# Altium footprint library UCL1V331MNL1GS.PcbLib: 3 footprints
Each footprint in its own frame and in the unit in brackets; x right, y up, seen from the top. Pads: shape width x height; smd on the part's side, far side on the other; paste and mask are expansions set on the pad; w line width, h text height; cw(c..) or ccw(c..) is an arc to the next point about the centre after c.
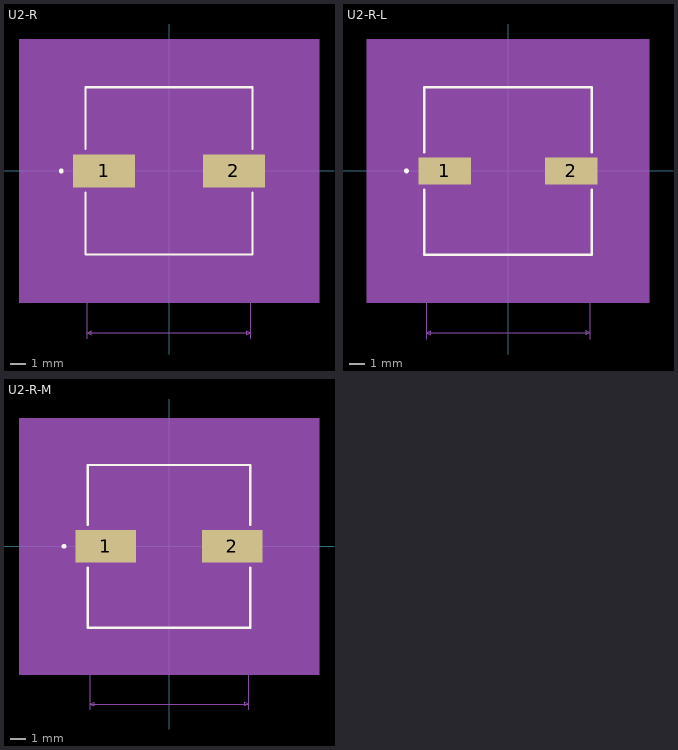
[diagram p0: the footprints below, top view; thin cyan lines are the x and y axes]

## U2-R [mil]
pads (2):
  rect 154x83 smd paste+0 mask+0: 1(-161.5,0) 2(161.5,0)
Top Overlay:
  circle w6: c-268.5,0 r3
  lines w6: -208,-54.6 -208,-208 208,-208 208,-54.6 ; -208,54.6 -208,208 208,208 208,54.6
Mechanical 5:
  region: 373.5,-328 -373.5,-328 -373.5,328 373.5,328
Mechanical 7:
  lines w1: -318,-203 -203,-203 -203,-418 ; -318,203 -203,203 ; -260.5,-303 -210.5,-303 ; -210.5,-318 -210.5,-51.5 ; -210.5,51.5 -210.5,318 ; -84.5,-318 -84.5,-31.5 ; -34.5,-303 -84.5,-303 ; 203,-418 203,-203 ; 210.5,51.5 210.5,318 ; 248.5,-21.5 353.5,-21.5 ; 248.5,21.5 353.5,21.5 ; 338.5,-71.5 338.5,-21.5 ; 338.5,71.5 338.5,21.5 ; -303,-203 -298,-193 -308,-193 -303,-203 ; -303,-203 -303,203 ; -303,203 -298,193 -308,193 -303,203 ; -210.5,-303 -220.5,-308 -220.5,-298 -210.5,-303 ; -210.5,303 -200.5,298 -200.5,308 -210.5,303 ; -210.5,303 210.5,303 ; -203,-403 -193,-408 -193,-398 -203,-403 ; -203,-403 203,-403 ; -84.5,-303 -74.5,-308 -74.5,-298 -84.5,-303 ; 203,-403 193,-408 193,-398 203,-403 ; 210.5,303 200.5,298 200.5,308 210.5,303 ; 338.5,-21.5 343.5,-31.5 333.5,-31.5 338.5,-21.5 ; 338.5,21.5 343.5,31.5 333.5,31.5 338.5,21.5
  text "0.406in/10.312mm" at -100,-448 h25
  text "0.126in/3.2mm" at -228.75,-348 h25
  text "0.406in/10.312mm" at -523,-12.5 h25
  text "0.421in/10.693mm" at -100,323 h25
  text "0.043in/1.092mm" at 358.5,-12.5 h25
  text "Alternate 2 Padstyle: OX90Y60D30P" at -412.5,-633.5 h50
  text "Alternate 1 Padstyle: OX60Y90D30P" at -412.5,-533.5 h50
  text "Default Padstyle: RX154Y83D0T" at -362.5,-433.5 h50
Mechanical 13:
  circle w0: c-183,0 r3
  lines w1: -203,-101.5 -101.5,-203 ; -203,101.5 -101.5,203 ; -203,-203 -203,203 203,203 203,-203 -203,-203
Mechanical 15:
  region: -213,-51.5 -248.5,-51.5 -248.5,51.5 -213,51.5 -213,213 213,213 213,51.5 248.5,51.5 248.5,-51.5 213,-51.5 213,-213 -213,-213
  lines w6: -248.5,-51.5 -213,-51.5 -213,-213 213,-213 213,-51.5 248.5,-51.5 248.5,51.5 213,51.5 213,213 -213,213 -213,51.5 -248.5,51.5 -248.5,-51.5
3D body: height 393.7, standoff 0, extent -196.85,-196.84 196.85,196.86
3D body: height 787.4, standoff -2755.91, extent -40,40 -40,40
3D body: height 10, standoff 0, extent 0,0 10,10

## U2-R-L [mil]
pads (2):
  rect 130x67 smd paste+0 mask+0: 1(-157.5,0) 2(157.5,0)
Top Overlay:
  circle w6: c-252.5,0 r3
  lines w6: -208,-46.6 -208,-208 208,-208 208,-46.6 ; -208,46.6 -208,208 208,208 208,46.6
Mechanical 5:
  region: 351.5,-328 -351.5,-328 -351.5,328 351.5,328
Mechanical 7:
  lines w1: -318,-203 -203,-203 -203,-418 ; -318,203 -203,203 ; -260.5,-303 -210.5,-303 ; -210.5,-318 -210.5,-43.5 ; -210.5,43.5 -210.5,318 ; -84.5,-318 -84.5,-23.5 ; -34.5,-303 -84.5,-303 ; 203,-418 203,-203 ; 210.5,43.5 210.5,318 ; 232.5,-21.5 337.5,-21.5 ; 232.5,21.5 337.5,21.5 ; 322.5,-71.5 322.5,-21.5 ; 322.5,71.5 322.5,21.5 ; -303,-203 -303,203 ; -303,-203 -308,-193 -298,-193 -303,-203 ; -303,203 -308,193 -298,193 -303,203 ; -210.5,-303 -220.5,-298 -220.5,-308 -210.5,-303 ; -210.5,303 210.5,303 ; -210.5,303 -200.5,308 -200.5,298 -210.5,303 ; -203,-403 203,-403 ; -203,-403 -193,-398 -193,-408 -203,-403 ; -84.5,-303 -74.5,-298 -74.5,-308 -84.5,-303 ; 203,-403 193,-398 193,-408 203,-403 ; 210.5,303 200.5,308 200.5,298 210.5,303 ; 322.5,-21.5 317.5,-31.5 327.5,-31.5 322.5,-21.5 ; 322.5,21.5 317.5,31.5 327.5,31.5 322.5,21.5
  text "Default Padstyle: RX130Y67D0T" at -362.5,-441.5 h50
  text "Alternate 1 Padstyle: OX60Y90D30P" at -412.5,-541.5 h50
  text "Alternate 2 Padstyle: OX90Y60D30P" at -412.5,-641.5 h50
  text "0.043in/1.092mm" at 342.5,-12.5 h25
  text "0.421in/10.693mm" at -100,323 h25
  text "0.406in/10.312mm" at -523,-12.5 h25
  text "0.126in/3.2mm" at -228.75,-348 h25
  text "0.406in/10.312mm" at -100,-448 h25
Mechanical 13:
  circle w0: c-183,0 r3
  lines w1: -203,-101.5 -101.5,-203 ; -203,101.5 -101.5,203 ; -203,-203 203,-203 203,203 -203,203 -203,-203
Mechanical 15:
  region: -207,-37.5 -226.5,-37.5 -226.5,37.5 -207,37.5 -207,207 207,207 207,37.5 226.5,37.5 226.5,-37.5 207,-37.5 207,-207 -207,-207
  lines w6: -226.5,-37.5 -226.5,37.5 -207,37.5 -207,207 207,207 207,37.5 226.5,37.5 226.5,-37.5 207,-37.5 207,-207 -207,-207 -207,-37.5 -226.5,-37.5
3D body: height 10, standoff 0, extent 0,0 10,10

## U2-R-M [mil]
pads (2):
  rect 154x83 smd paste+0 mask+0: 1(-161.5,0) 2(161.5,0)
Top Overlay:
  circle w6: c-268.5,0 r3
  lines w6: -208,-54.6 -208,-208 208,-208 208,-54.6 ; -208,54.6 -208,208 208,208 208,54.6
Mechanical 5:
  region: 383.5,-328 -383.5,-328 -383.5,328 383.5,328
Mechanical 7:
  lines w1: -318,-203 -203,-203 -203,-418 ; -318,203 -203,203 ; -260.5,-303 -210.5,-303 ; -210.5,-318 -210.5,-51.5 ; -210.5,51.5 -210.5,318 ; -84.5,-318 -84.5,-31.5 ; -34.5,-303 -84.5,-303 ; 203,-418 203,-203 ; 210.5,51.5 210.5,318 ; 248.5,-21.5 353.5,-21.5 ; 248.5,21.5 353.5,21.5 ; 338.5,-71.5 338.5,-21.5 ; 338.5,71.5 338.5,21.5 ; -303,-203 -303,203 ; -303,-203 -308,-193 -298,-193 -303,-203 ; -303,203 -308,193 -298,193 -303,203 ; -210.5,-303 -220.5,-298 -220.5,-308 -210.5,-303 ; -210.5,303 210.5,303 ; -210.5,303 -200.5,308 -200.5,298 -210.5,303 ; -203,-403 203,-403 ; -203,-403 -193,-398 -193,-408 -203,-403 ; -84.5,-303 -74.5,-298 -74.5,-308 -84.5,-303 ; 203,-403 193,-398 193,-408 203,-403 ; 210.5,303 200.5,308 200.5,298 210.5,303 ; 338.5,-21.5 333.5,-31.5 343.5,-31.5 338.5,-21.5 ; 338.5,21.5 333.5,31.5 343.5,31.5 338.5,21.5
  text "Default Padstyle: RX154Y83D0T" at -362.5,-433.5 h50
  text "Alternate 1 Padstyle: OX60Y90D30P" at -412.5,-533.5 h50
  text "Alternate 2 Padstyle: OX90Y60D30P" at -412.5,-633.5 h50
  text "0.043in/1.092mm" at 358.5,-12.5 h25
  text "0.421in/10.693mm" at -100,323 h25
  text "0.406in/10.312mm" at -523,-12.5 h25
  text "0.126in/3.2mm" at -228.75,-348 h25
  text "0.406in/10.312mm" at -100,-448 h25
Mechanical 13:
  circle w0: c-183,0 r3
  lines w1: -203,-101.5 -101.5,-203 ; -203,101.5 -101.5,203 ; -203,-203 203,-203 203,203 -203,203 -203,-203
Mechanical 15:
  region: -223,-61.5 -258.5,-61.5 -258.5,61.5 -223,61.5 -223,223 223,223 223,61.5 258.5,61.5 258.5,-61.5 223,-61.5 223,-223 -223,-223
  lines w6: -258.5,-61.5 -258.5,61.5 -223,61.5 -223,223 223,223 223,61.5 258.5,61.5 258.5,-61.5 223,-61.5 223,-223 -223,-223 -223,-61.5 -258.5,-61.5
3D body: height 10, standoff 0, extent 0,0 10,10